# EAGLE library part HM11 (library awqua_eagle_library)
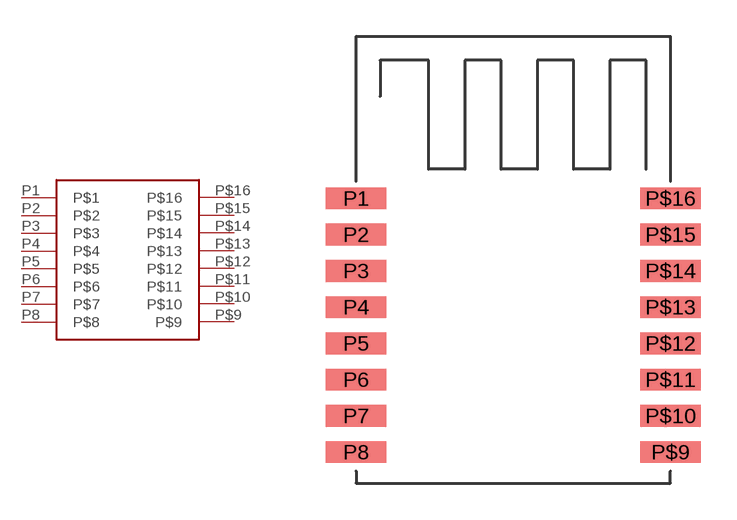
[diagram p14: symbol with the pads of HM11; footprint HM11]

Designator prefix -

## HM11  [HM11]
P1  P$1
P2  P$2
P3  P$3
P4  P$4
P5  P$5
P6  P$6
P7  P$7
P8  P$8
P$9  P$9
P$10  P$10
P$11  P$11
P$12  P$12
P$13  P$13
P$14  P$14
P$15  P$15
P$16  P$16

## Footprint HM11 (pad centres in mm)
smd 2.5 x 0.9: P1 0,11.79; P2 0,10.29; P3 0,8.79; P4 0,7.29; P5 0,5.79; P6 0,4.29; P7 0,2.79; P8 0,1.29; P$9 13,1.29; P$10 13,2.79; P$11 13,4.29; P$12 13,5.79; P$13 13,7.29; P$14 13,8.79; P$15 13,10.29; P$16 13,11.79